# EAGLE library part RJHSE-3381 (library JLB6_Connec)
RJ45 verticale Amphenol RJHSE-3381 avec 2 leds
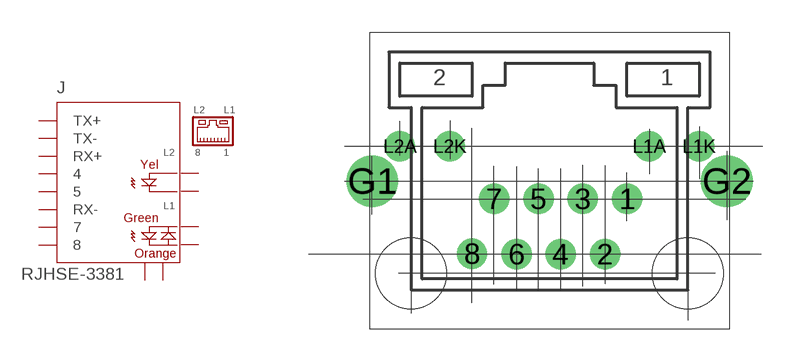
[diagram p35: symbol with the pads of RJHSE-338X; footprint RJHSE-338X]

Designator prefix J

## RJHSE-3381  [RJHSE-338X]
1  TX+
2  TX-
3  RX+
4  4
5  5
6  RX-
7  7
8  8
G1  G1
G2  G2
L1A  L1A
L1K  L1K
L2A  L2A
L2K  L2K

## Footprint RJHSE-338X (pad centres in mm)
drill 0.889: 1 3.556,3.429; 2 2.54,0.889; 3 1.524,3.429; 4 0.508,0.889; 5 -0.508,3.429; 6 -1.511,0.889; 7 -2.54,3.429; 8 -3.556,0.914; L1A 4.572,5.842; L1K 6.858,5.842; L2A -6.858,5.842; L2K -4.572,5.842
drill 1.575 pad 2.184: G1 -8.128,4.242; G2 8.128,4.242
hole 3.251 at -6.35,0
hole 3.251 at 6.35,0